# Altium footprint library 172677-0200.PcbLib: 1 footprints
Each footprint in its own frame and in the unit in brackets; x right, y up, seen from the top. Pads: shape width x height; smd on the part's side, far side on the other; paste and mask are expansions set on the pad; w line width, h text height; cw(c..) or ccw(c..) is an arc to the next point about the centre after c.
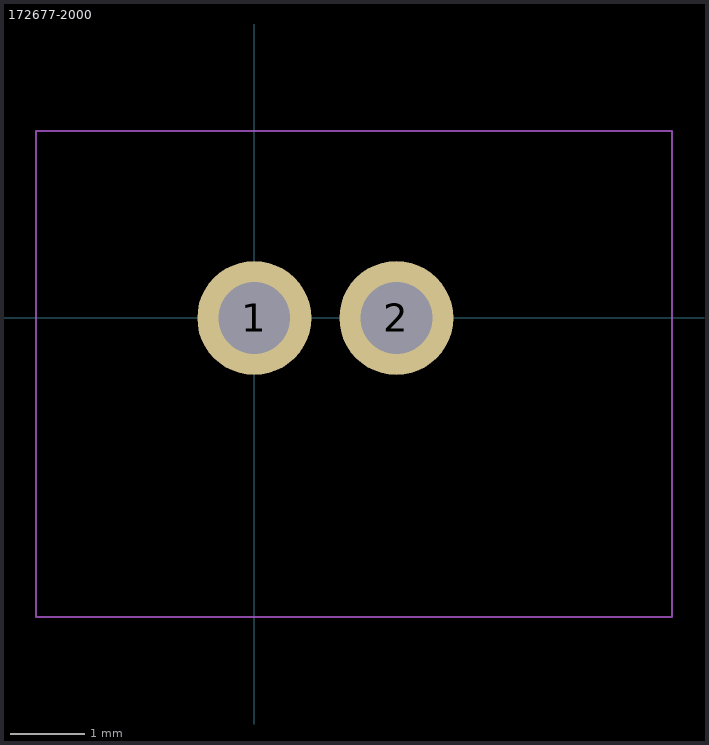
[diagram p0: the footprint, top view; thin cyan lines are the x and y axes]

## 172677-2000 [mil]
pads (2):
  round 60 hole 37.8: 1(0,0) 2(74.8,0)
Component_Outline:
  lines w1: -115,-157.5 220,-157.5 220,98.5 -115,98.5 -115,50 -115,-157.5
3D body "1726770200.stp": height 67.5, standoff -95.25, extent -110,-5.27 199.92,45.27